# EAGLE library part OPA1679IRUMT (library OPA1679IRUMT)
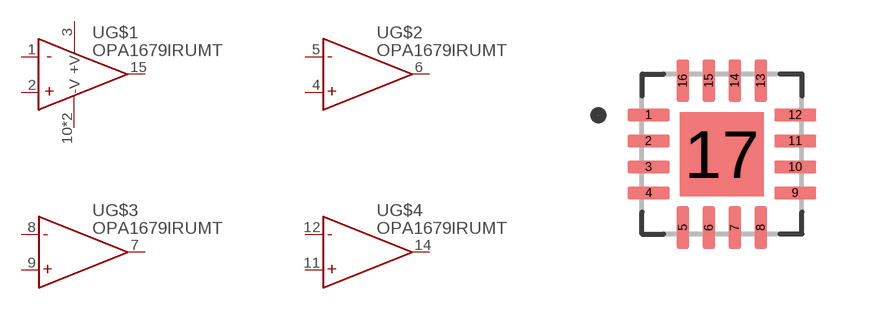
[diagram p0: symbol with the pads of QFN65P400X400X80-17N; footprint QFN65P400X400X80-17N]

Designator prefix U; gates G$1=OPAMP-POWER G$2=OPAMP G$3=OPAMP G$4=OPAMP

## OPA1679IRUMT  [QFN65P400X400X80-17N]
1  G$1:-IN  in
2  G$1:+IN  in
3  G$1:+V  pwr
4  G$2:+IN  in
5  G$2:-IN  in
6  G$2:OUT  out
7  G$3:OUT  out
8  G$3:-IN  in
9  G$3:+IN  in
10  G$1:-V  pwr
11  G$4:+IN  in
12  G$4:-IN  in
14  G$4:OUT  out
15  G$1:OUT  out
17  G$1:-V  pwr

## Footprint QFN65P400X400X80-17N (pad centres in mm)
smd 1.06 x 0.32: 1 -1.835,0.975; 2 -1.835,0.325; 3 -1.835,-0.325; 4 -1.835,-0.975; 9 1.835,-0.975; 10 1.835,-0.325; 11 1.835,0.325; 12 1.835,0.975
smd 0.32 x 1.06: 5 -0.975,-1.835; 6 -0.325,-1.835; 7 0.325,-1.835; 8 0.975,-1.835; 13 0.975,1.835; 14 0.325,1.835; 15 -0.325,1.835; 16 -0.975,1.835
smd 2.1 x 2.1: 17 0,0